# Altium footprint library austriamicrosystems.PCBLIB: 2 footprints
Each footprint in its own frame and in the unit in brackets; x right, y up, seen from the top. Pads: shape width x height; smd on the part's side, far side on the other; paste and mask are expansions set on the pad; w line width, h text height; cw(c..) or ccw(c..) is an arc to the next point about the centre after c.
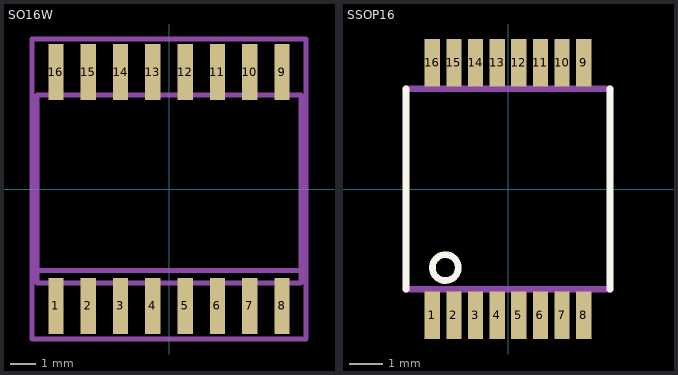
[diagram p0: the footprints below, top view; thin cyan lines are the x and y axes]

## SO16W [mil]
pads (16):
  rect 23.62x86.61 smd: 1(-175,-181.1) 2(-125,-181.1) 3(-75,-181.1) 4(-25,-181.1) 5(25,-181.1) 6(75,-181.1) 7(125,-181.1) 8(175,-181.1) 9(175,181.1) 10(125,181.1) 11(75,181.1) 12(25,181.1) 13(-25,181.1) 14(-75,181.1) 15(-125,181.1) 16(-175,181.1)
Mechanical 16:
  rectangle: -184.65,-209.45 -165.35,-149.61
  rectangle: -134.65,-209.45 -115.35,-149.61
  rectangle: -84.65,-209.45 -65.35,-149.61
  rectangle: -34.65,-209.45 -15.35,-149.61
  rectangle: 15.35,-209.45 34.65,-149.61
  rectangle: 65.35,-209.45 84.65,-149.61
  rectangle: 115.35,-209.45 134.65,-149.61
  rectangle: 165.35,-209.45 184.65,-149.61
  rectangle: 165.35,149.61 184.65,209.45
  rectangle: 115.35,149.61 134.65,209.45
  rectangle: 65.35,149.61 84.65,209.45
  rectangle: 15.35,149.61 34.65,209.45
  rectangle: -34.65,149.61 -15.35,209.45
  rectangle: -84.65,149.61 -65.35,209.45
  rectangle: -134.65,149.61 -115.35,209.45
  rectangle: -184.65,149.61 -165.35,209.45
  lines w8: -204.33,-125.98 -204.33,-145.67 204.33,-145.67 204.33,-125.98 ; -204.33,-125.98 -204.33,145.67 204.33,145.67 204.33,-125.98 ; -204.33,-125.98 204.33,-125.98
Mechanical 27:
  lines w7.87: -212.4,-232.28 212.4,-232.28 212.4,232.28 -212.4,232.28 -212.4,-232.28

## SSOP16 [mm]
pads (16):
  rect 0.46x1.43 smd: 1(-2.275,-3.795) 2(-1.625,-3.795) 3(-0.975,-3.795) 4(-0.325,-3.795) 5(0.325,-3.795) 6(0.975,-3.795) 7(1.625,-3.795) 8(2.275,-3.795) 9(2.275,3.795) 10(1.625,3.795) 11(0.975,3.795) 12(0.325,3.795) 13(-0.325,3.795) 14(-0.975,3.795) 15(-1.625,3.795) 16(-2.275,3.795)
Top Overlay:
  circle w0.203: c-1.885,-2.365 r0.39
  lines w0.203: -3.068,-3.015 -3.068,3.015 ; 3.068,-3.015 3.068,3.015
Mechanical 16:
  rectangle: -2.437,-4.185 -2.113,-3.113
  rectangle: -1.787,-4.185 -1.463,-3.113
  rectangle: -1.137,-4.185 -0.813,-3.113
  rectangle: -0.487,-4.185 -0.163,-3.113
  rectangle: 0.163,-4.185 0.487,-3.113
  rectangle: 0.813,-4.185 1.137,-3.113
  rectangle: 1.463,-4.185 1.787,-3.113
  rectangle: 2.113,-4.185 2.437,-3.113
  rectangle: 2.113,3.113 2.437,4.185
  rectangle: 1.463,3.113 1.787,4.185
  rectangle: 0.813,3.113 1.137,4.185
  rectangle: 0.163,3.113 0.487,4.185
  rectangle: -0.487,3.113 -0.163,4.185
  rectangle: -1.137,3.113 -0.813,4.185
  rectangle: -1.787,3.113 -1.463,4.185
  rectangle: -2.437,3.113 -2.113,4.185
  lines w0.203: -3.068,-3.015 3.068,-3.015 ; -3.068,3.015 3.068,3.015